# Altium footprint library NodeMCU.PcbLib: 1 footprints
Each footprint in its own frame and in the unit in brackets; x right, y up, seen from the top. Pads: shape width x height; smd on the part's side, far side on the other; paste and mask are expansions set on the pad; w line width, h text height; cw(c..) or ccw(c..) is an arc to the next point about the centre after c.

## PCBComponent_1 [mm]
Top Layer:
  text "Name	Description	Height" at -347.472,81.661 h1.52
  text "HDR2.54-M-LI-15P	排母，15脚	0" at -347.472,79.883 h1.52
  text "Name	Description	Height" at -347.472,81.661 h1.52
  text "HDR2.54-M-LI-15P	排母，15脚	0" at -347.472,79.883 h1.52
  text "Name	Description	Height" at -301.371,93.98 h1.52
  text "HDR2.54-M-LI-15P	排母，15脚	0" at -301.371,92.202 h1.52
  text "Name	Description	Height" at -187.579,23.241 h1.52
  text "HDR2.54-M-LI-15P	排母，15脚	0" at -187.579,21.463 h1.52